# EAGLE library part LDR6282 (library USB-PD_LDR)
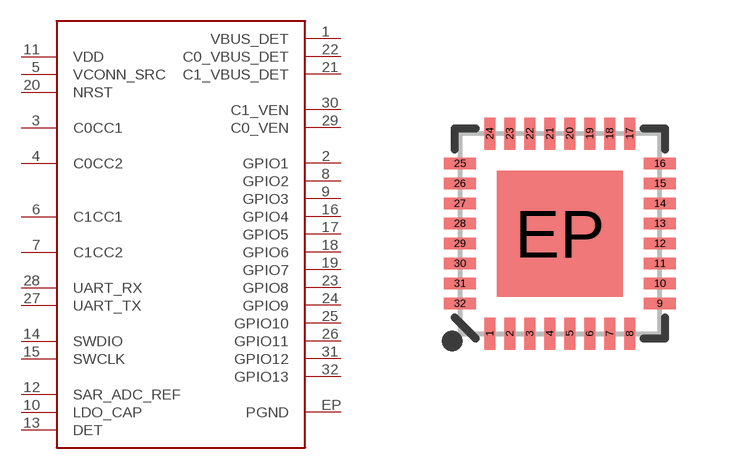
[diagram p0: symbol with the pads of QFN-32-5X5MM; footprint QFN-32-5X5MM]

Designator prefix -

## LDR6282  [QFN-32-5X5MM]
1  VBUS_DET
2  GPIO1
3  C0CC1
4  C0CC2
5  VCONN_SRC
6  C1CC1
7  C1CC2
8  GPIO2
9  GPIO3
10  LDO_CAP
11  VDD
12  SAR_ADC_REF
13  DET
14  SWDIO
15  SWCLK
16  GPIO4
17  GPIO5
18  GPIO6
19  GPIO7
20  NRST
21  C1_VBUS_DET
22  C0_VBUS_DET
23  GPIO8
24  GPIO9
25  GPIO10
26  GPIO11
27  UART_TX
28  UART_RX
29  C0_VEN
30  C1_VEN
31  GPIO12
32  GPIO13
EP  PGND

## Footprint QFN-32-5X5MM (pad centres in mm)
QFN 32-Pin w/ Thermal Pad - 5.0 x 5.0 mm Used by nRF24LU1 and nRF24LE1 Datasheet Example <https://www.sparkfun.com/datasheets/Wireless/Nordic/nRF24LU1P_1_0.pdf>
smd 0.285 x 0.8: 1 -1.75,-2.5; 2 -1.25,-2.5; 3 -0.75,-2.5; 4 -0.25,-2.5; 5 0.25,-2.5; 6 0.75,-2.5; 7 1.25,-2.5; 8 1.75,-2.5; 17 1.75,2.5; 18 1.25,2.5; 19 0.75,2.5; 20 0.25,2.5; 21 -0.25,2.5; 22 -0.75,2.5; 23 -1.25,2.5; 24 -1.75,2.5
smd 0.8 x 0.285: 9 2.5,-1.75; 10 2.5,-1.25; 11 2.5,-0.75; 12 2.5,-0.25; 13 2.5,0.25; 14 2.5,0.75; 15 2.5,1.25; 16 2.5,1.75; 25 -2.5,1.75; 26 -2.5,1.25; 27 -2.5,0.75; 28 -2.5,0.25; 29 -2.5,-0.25; 30 -2.5,-0.75; 31 -2.5,-1.25; 32 -2.5,-1.75
smd 3.15 x 3.15: EP 0,0